# Altium footprint library Old Gate Driver Design.PcbLib: 32 footprints (part 2 of 2)
Each footprint in its own frame and in the unit in brackets; x right, y up, seen from the top. Pads: shape width x height; smd on the part's side, far side on the other; paste and mask are expansions set on the pad; w line width, h text height; cw(c..) or ccw(c..) is an arc to the next point about the centre after c.
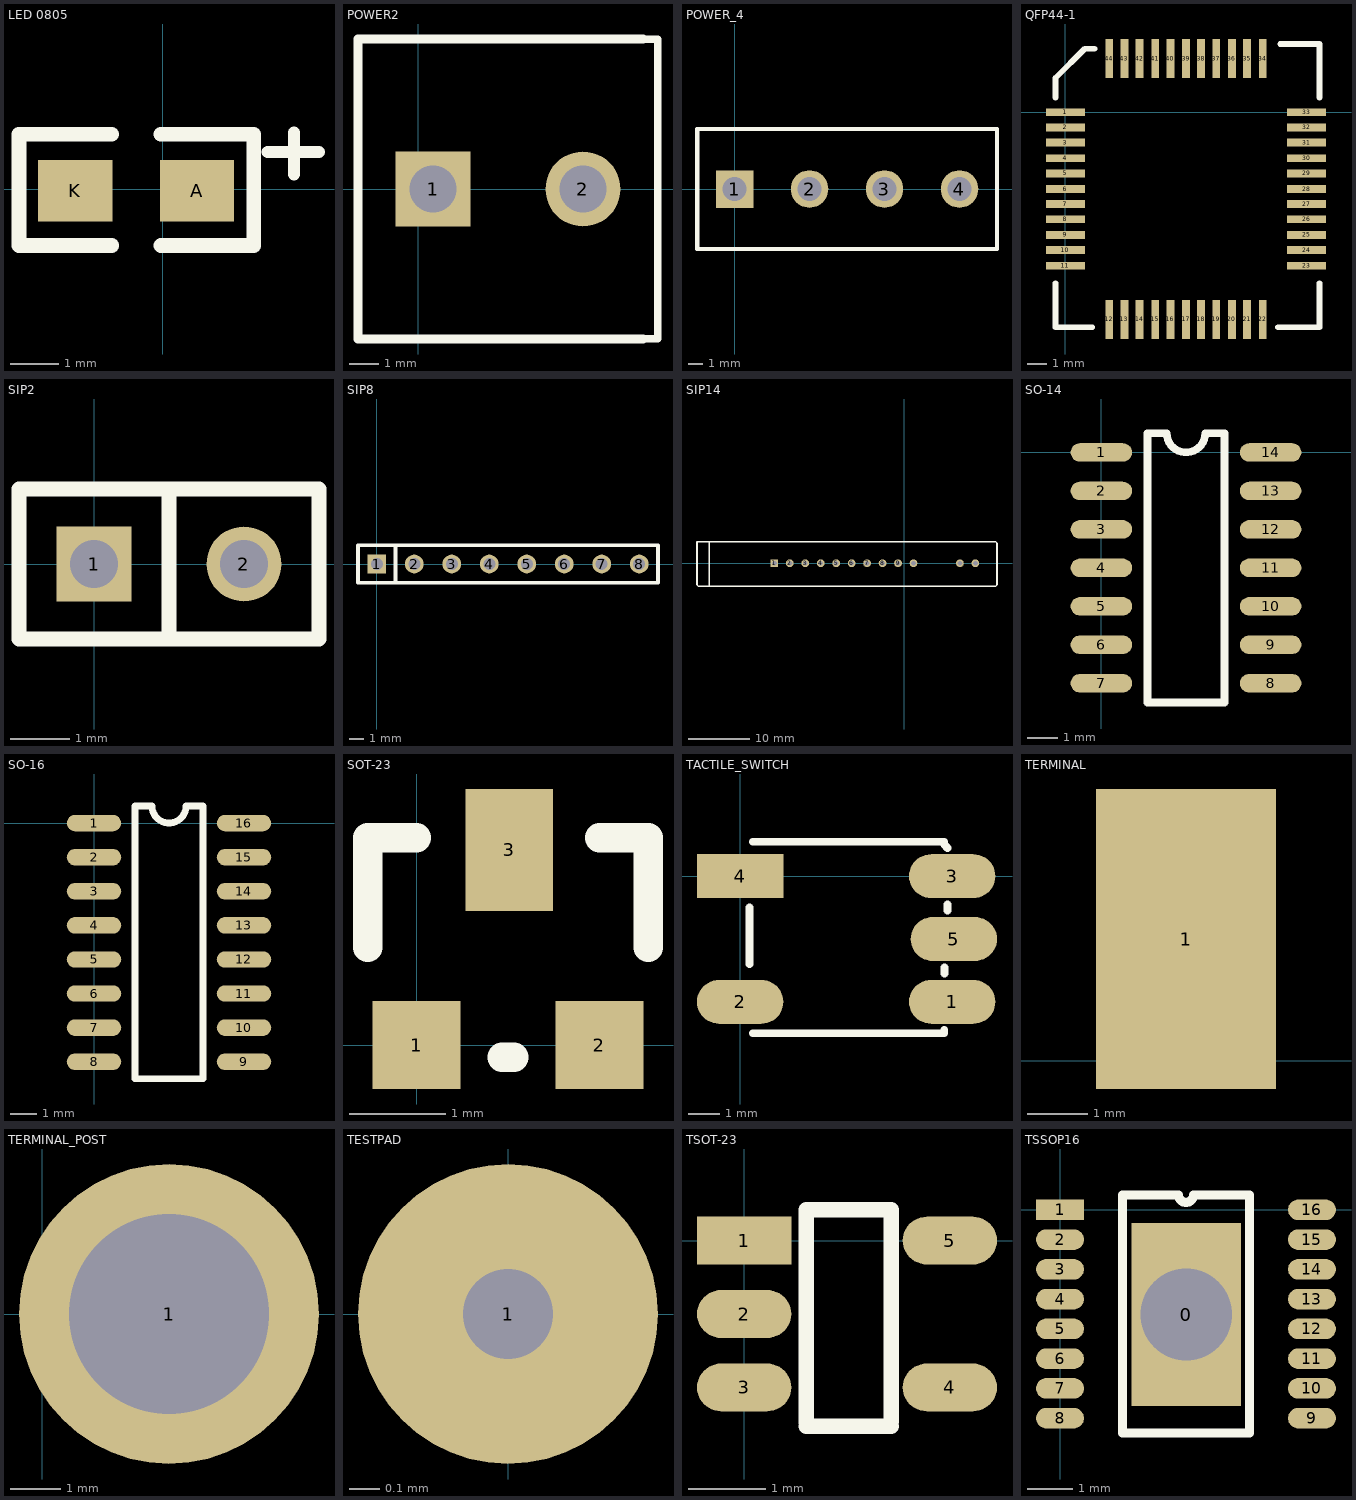
[diagram p1: the footprints below, top view; thin cyan lines are the x and y axes]

## LED 0805 [mil]
pads (2):
  rect 60x50 smd: A(27.7,-1.4) K(-70.9,-1.4)
Top Overlay:
  lines w10: 84.9,30 126.4,30 ; 106.2,12 106.2,45.7
  lines w12: -41.4,-45.7 -116.4,-45.7 -116.4,44.3 -41.4,44.3 ; -1.4,-45.7 73.6,-45.7 73.6,44.3 -1.4,44.3

## POWER2 [mil]
pads (2):
  rect 100x100 hole 62.99: 1(20,0)
  round 100 hole 62.99: 2(220,0)
Top Overlay:
  lines w10: 300,-200 320,-200 320,200 300,200
  lines w12: 300,-200 -80,-200 -80,200 300,200

## POWER_4 [mm]
pads (4):
  rect 2.54x2.54 hole 1.6: 1(0,0)
  round 2.54 hole 1.6: 2(5.08,0) 3(10.16,0) 4(15.24,0)
Top Overlay:
  lines w0.254: -2.54,-4.064 7.112,-4.064 ; -2.54,4.064 7.112,4.064 ; 6.604,-4.064 17.78,-4.064 17.78,4.064 6.604,4.064
  lines w0.305: -2.54,-4.064 -2.54,4.064

## QFP44-1 [mil]
pads (44):
  rect 80x16 smd: 1(0,0) 2(0,-31) 3(0,-62) 4(0,-94) 5(0,-125) 6(0,-157) 7(0,-188) 8(0,-219) 9(0,-251) 10(0,-282) 11(0,-314) 23(494,-314) 24(494,-282) 25(494,-251) 26(494,-219) 27(494,-188) 28(494,-157) 29(494,-125) 30(494,-94) 31(494,-62) 32(494,-31) 33(494,0)
  rect 16x80 smd: 12(90,-424) 13(121,-424) 14(152,-424) 15(184,-424) 16(215,-424) 17(247,-424) 18(278,-424) 19(309,-424) 20(341,-424) 21(372,-424) 22(404,-424) 34(404,110) 35(372,110) 36(341,110) 37(309,110) 38(278,110) 39(247,110) 40(215,110) 41(184,110) 42(152,110) 43(121,110) 44(90,110)
Top Overlay:
  lines w12: -20,-350 -20,-440 55,-440 ; -20,30 -20,70 40,130 60,130 ; 435,-440 520,-440 520,-350 ; 440,140 520,140 520,30

## SIP2 [mil]
pads (2):
  rect 50x50 hole 32: 1(0,0)
  round 50 hole 32: 2(100,0)
Top Overlay:
  lines w10: 50,-50 50,50 ; -50,-50 150,-50 150,50 -50,50 -50,-50

## SIP8 [mil]
pads (8):
  rect 50x50 hole 32: 1(0,0)
  round 50 hole 32: 2(100,0) 3(200,0) 4(300,0) 5(400,0) 6(500,0) 7(600,0) 8(700,0)
Top Overlay:
  lines w10: 50,-50 50,50 ; -50,-50 750,-50 750,50 -50,50 -50,-50

## SIP14 [mil]
pads (12):
  rect 50x50 hole 32: 1(-840,0)
  round 50 hole 32: 2(-740,0) 3(-640,0) 4(-540,0) 5(-440,0) 6(-340,0) 7(-240,0) 8(-140,0) 9(-40,0) 10(60,0) 13(360,0) 14(460,0)
Top Overlay:
  lines w10: -1260,-150 -1260,140 ; -890,-150 310,-150 510,-150 590,-150 600,-140 600,130 590,140 510,140 310,140 -890,140 -1330,140 -1340,140 -1340,-140 -1330,-150 -840,-150

## SO-14 [mil]
pads (14):
  oval 80x24 smd: 1(0,0) 2(0,-50) 3(0,-100) 4(0,-150) 5(0,-200) 6(0,-250) 7(0,-300) 8(220,-300) 9(220,-250) 10(220,-200) 11(220,-150) 12(220,-100) 13(220,-50) 14(220,0)
Top Overlay:
  lines w10: 60,-325 160,-325 160,25 135,25 cw(c110,25) 85,25 60,25 60,-325

## SO-16 [mil]
pads (16):
  oval 80x24 smd: 1(0,0) 2(0,-50) 3(0,-100) 4(0,-150) 5(0,-200) 6(0,-250) 7(0,-300) 8(0,-350) 9(220,-350) 10(220,-300) 11(220,-250) 12(220,-200) 13(220,-150) 14(220,-100) 15(220,-50) 16(220,0)
Top Overlay:
  lines w10: 60,-375 60,25 85,25 ccw(c110,25) 135,25 160,25 160,-375 60,-375

## SOT-23 [mil]
pads (3):
  rect 36x36 smd: 1(0,0) 2(75,0)
  rect 36x50 smd: 3(38,80)
Top Overlay:
  lines w12: -20,40 -20,85 0,85 ; 35,-5 40,-5 ; 75,85 95,85 95,40

## TACTILE_SWITCH [mm]
pads (5):
  oval 2.75x1.4 smd: 1(6.75,-4) 2(0,-4) 3(6.75,0) 5(6.8,-2)
  rect 2.75x1.4 smd: 4(0,0)
Top Overlay:
  lines w0.254: 0.3,-2.8 0.3,-1 ; 0.4,-5 6.496,-5 6.496,-4.904 ; 0.4,1.096 6.496,1.096 6.496,1.004 6.6,0.9 ; 6.5,-3.1 6.5,-2.9 ; 6.6,-1.1 6.6,-0.9

## TERMINAL [mil]
pads (1):
  rect 118.11x196.85 smd: 1(-220,80)
Mechanical 1:
  lines w10: -260,20 -260,140 -180,140 -180,20 -260,20

## TERMINAL_POST [mm]
pads (1):
  round 6 hole 4: 1(2.54,0)

## TESTPAD [mm]
pads (1):
  round 1 hole 0.3: 1(0,0)

## TSOT-23 [mm]
pads (5):
  rect 1.22x0.62 smd: 1(0,0)
  oval 1.22x0.62 smd: 2(0,-0.95) 3(0,-1.9) 4(2.66,-1.9) 5(2.66,0)
Top Overlay:
  lines w0.2: 0.8,-2.4 1.9,-2.4 ; 0.8,-2.35 0.8,0.4 1.9,0.4 1.9,-2.342

## TSSOP16 [mm]
pads (17):
  rect 2.4x4 hole 2: 0(2.756,-2.286)
  rect 1.05x0.45 smd: 1(0,0)
  oval 1.05x0.45 smd: 2(0,-0.65) 3(0,-1.3) 4(0,-1.95) 5(0,-2.6) 6(0,-3.25) 7(0,-3.9) 8(0,-4.55) 9(5.5,-4.55) 10(5.5,-3.9) 11(5.5,-3.25) 12(5.5,-2.6) 13(5.5,-1.95) 14(5.5,-1.3) 15(5.5,-0.65) 16(5.5,0)
Top Overlay:
  lines w0.2: 1.36,-4.875 4.14,-4.875 4.14,0.325 2.912,0.325 cw(c2.75,0.325) 2.587,0.325 1.36,0.325 1.36,-4.875